# Altium footprint library DIN41612_48_3row_right_angle_male.PcbLib: 1 footprints
Each footprint in its own frame and in the unit in brackets; x right, y up, seen from the top. Pads: shape width x height; smd on the part's side, far side on the other; paste and mask are expansions set on the pad; w line width, h text height; cw(c..) or ccw(c..) is an arc to the next point about the centre after c.
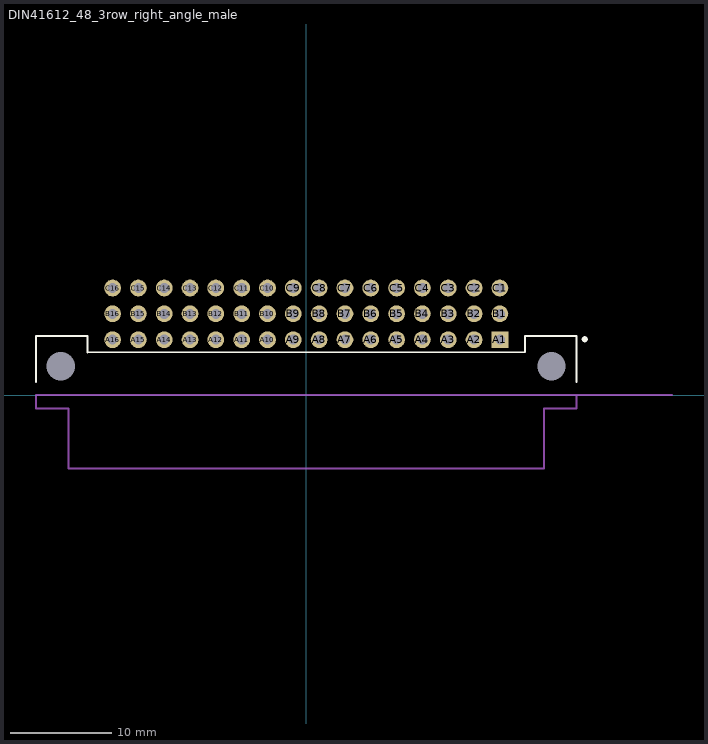
[diagram p0: the footprint, top view; thin cyan lines are the x and y axes]

## DIN41612_48_3row_right_angle_male [mm]
pads (50):
  rect 1.65x1.65 hole 1: A1(19.05,5.46)
  round 1.65 hole 1: A2(16.51,5.46) A3(13.97,5.46) A4(11.43,5.46) A5(8.89,5.46) A6(6.35,5.46) A7(3.81,5.46) A8(1.27,5.46) A9(-1.27,5.46) A10(-3.81,5.46) A11(-6.35,5.46) A12(-8.89,5.46) A13(-11.43,5.46) A14(-13.97,5.46) A15(-16.51,5.46) A16(-19.05,5.46) B1(19.05,8) B2(16.51,8) B3(13.97,8) B4(11.43,8) B5(8.89,8) B6(6.35,8) B7(3.81,8) B8(1.27,8) B9(-1.27,8) B10(-3.81,8) B11(-6.35,8) B12(-8.89,8) B13(-11.43,8) B14(-13.97,8) B15(-16.51,8) B16(-19.05,8) C1(19.05,10.54) C2(16.51,10.54) C3(13.97,10.54) C4(11.43,10.54) C5(8.89,10.54) C6(6.35,10.54) C7(3.81,10.54) C8(1.27,10.54) C9(-1.27,10.54) C10(-3.81,10.54) C11(-6.35,10.54) C12(-8.89,10.54) C13(-11.43,10.54) C14(-13.97,10.54) C15(-16.51,10.54) C16(-19.05,10.54)
  round 2.5 hole 2.8 unplated: ""(-24.13,2.86) ""(24.13,2.86)
Top Overlay:
  circle w0.3: c27.4,5.5 r0.15
  lines w0.2: -26.6,1.3 -26.6,5.8 -21.5,5.8 -21.5,4.216 21.5,4.226 21.5,5.8 26.6,5.8 26.6,1.3
Bottom Overlay:
  circle w0.3: c19,3.6 r0.15
Mechanical 13:
  lines w0.2: 26.6,0 26.6,-1.3 23.4,-1.3 23.4,-7.2 -23.4,-7.2 -23.4,-1.3 -26.6,-1.3 -26.6,0 36,0
  text "PCB EDGE" at 28.2,1.2 h1
3D body "DS1120-48M0R13.STEP": height 9.3, standoff -2.65, extent -26.63,-7.24 26.63,10.845